# Altium schematic symbol library Schlib1.SchLib: 23 symbols
Pins are listed as number, name and electrical type; pins without a type are passive.

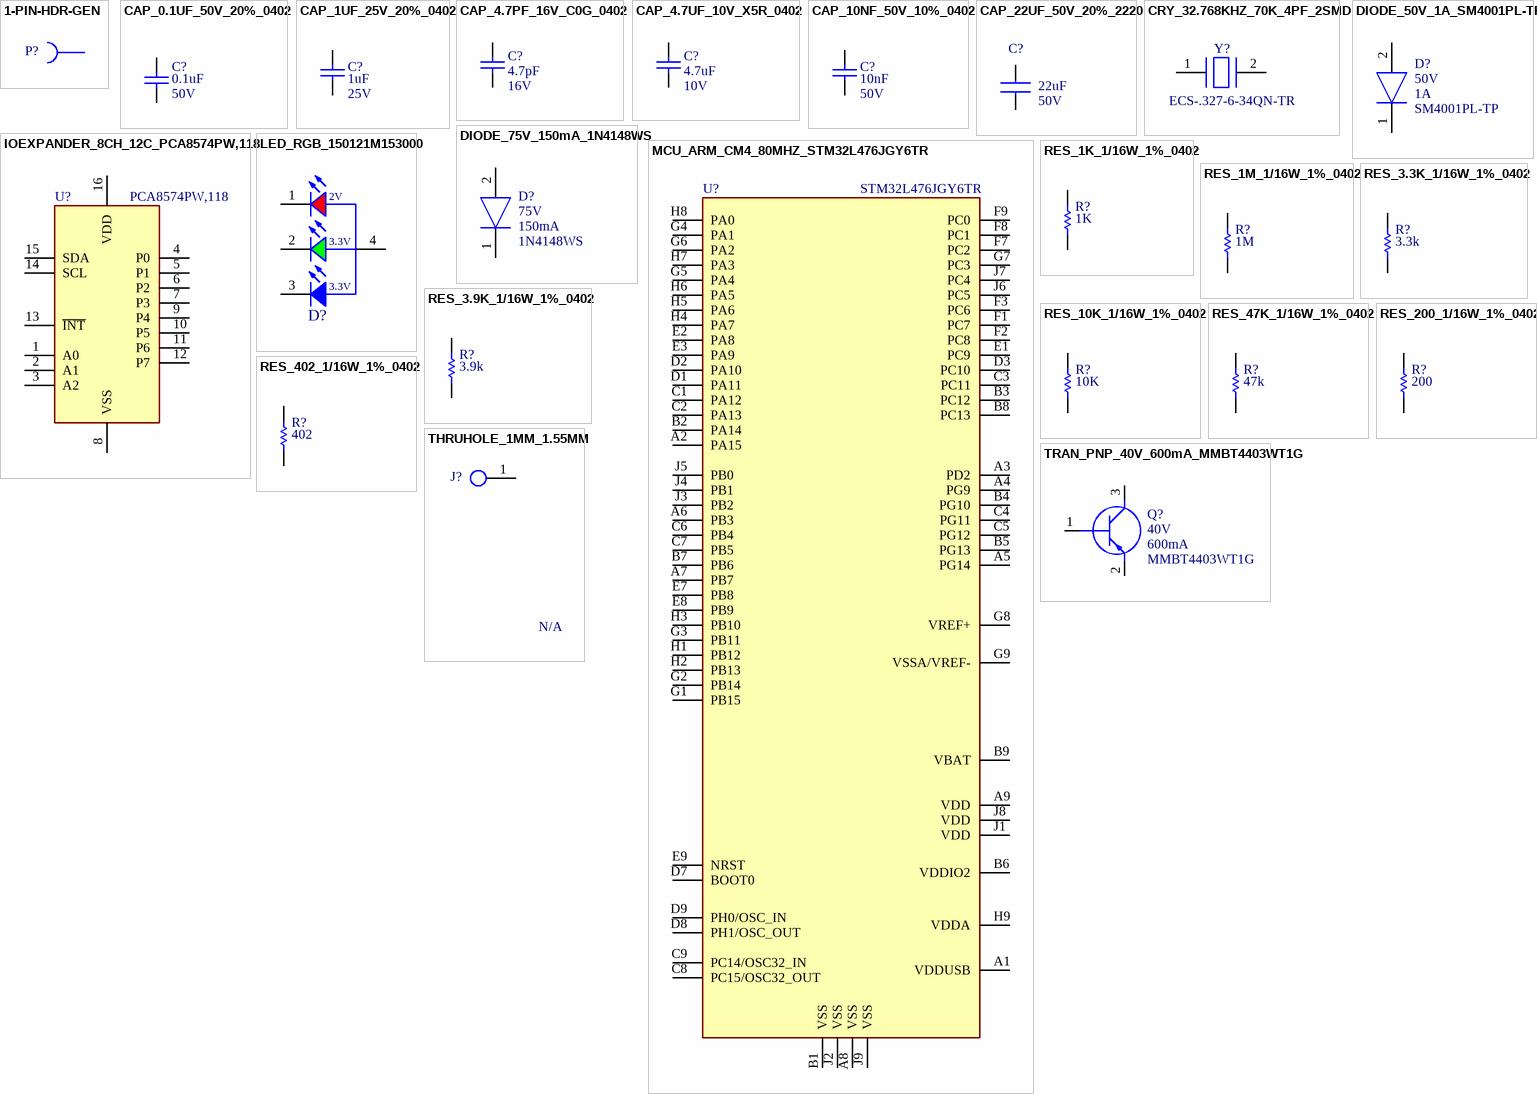
[diagram p0: symbols 1-PIN-HDR-GEN to TRAN_PNP_40V_600mA_MMBT4403WT1G]

## 1-PIN-HDR-GEN
designator P?  (value not drawn)
Generic through hole; Manufacturer Part Number: DNP; Manufacturer: N/A
footprint 1X01-PIN
pins: 1 P$1

## CAP_0.1UF_50V_20%_0402
designator C?, comment value 0.1uF  Voltage Rating: 50V  (hidden comment: GRM155R71H104KE14J)
CAP_0.1UF_50V_20%_0402; Manufacturer: Murata; Height: 0.55MM; Manufacturer Part Number: GRM155R71H104KE14J; ComponentLink1Description: Datasheet; ComponentLink1URL: https://search.murata.co.jp/Ceramy/image/img/A01X/G101/ENG/GRM155R71E104ME14-01.pdf
footprint CAP_0402_0.55MM (Footprint not found)
pins: 1, 2

## CAP_1UF_25V_20%_0402
designator C?, comment value 1uF  Voltage Rating: 25V  (hidden comment: GRM155R61E105MA12D)
CAP_1UF_25V_20%_0402; Manufacturer: Murata; Height: 0.55MM; Manufacturer Part Number: GRM155R61E105MA12D; Package: 0402
footprint CAP_0402_0.55MM
pins: 1, 2

## CAP_4.7PF_16V_C0G_0402
designator C?, comment value 4.7pF  Voltage Rating: 16V  (hidden comment: 885012005023)
CAP_4.7PF_16V_C0G_0402; Manufacturer: Würth Elektronik; Manufacturer Part Number: 885012005023; ComponentLink1Description: Datasheet; ComponentLink1URL: https://www.we-online.com/katalog/datasheet/885012005023.pdf
footprint CAP_0402_0.55MM
pins: 1, 2

## CAP_4.7UF_10V_X5R_0402
designator C?, comment value 4.7uF  Voltage Rating: 10V  (hidden comment: CL05A475KP5NRNC)
CAP CER 4.7UF 10V X5R 0402; Manufacturer: Samsung Electro-Mechanics; Manufacturer Part Number: CL05A475KP5NRNC; ComponentLink1Description: Datasheet; ComponentLink1URL: https://media.digikey.com/pdf/Data%20Sheets/Samsung%20PDFs/CL05A475KP5NRNC_Spec.pdf
footprint CAP_0402_0.55MM
pins: 1, 2

## CAP_10NF_50V_10%_0402
designator C?, comment value 10nF  Voltage Rating: 50V  (hidden comment: GCM155R71H103KA55J)
CAP_10NF_50V_10%_0402; Manufacturer: Murata; Height: 0.55MM; Manufacturer Part Number: GCM155R71H103KA55J; Package: 0402; ComponentLink1Description: Datasheet; ComponentLink1URL: https://search.murata.co.jp/Ceramy/image/img/A01X/G101/ENG/GCM155R71H103KA55-01.pdf
footprint CAP_0402_0.55MM (Footprint not found)
pins: 1, 2

## CAP_22UF_50V_20%_2220
designator C?, comment value 22uF  Voltage Rating: 50V  (hidden comment: CGA9P3X7R1H226M250KB)
CAP_22UF_50V_20%_2220; Manufacturer: TDK; Height: 2.8mm; Manufacturer Part Number: CGA9P3X7R1H226M250KB; ComponentLink1Description: Datasheet; ComponentLink1URL: https://product.tdk.com/system/files/dam/doc/product/capacitor/ceramic/mlcc/catalog/mlcc_automotive_general_en.pdf
footprint CAP_2220_2.8MM
pins: 1, 2

## CRY_32.768KHZ_70K_4PF_2SMD
designator Y?, comment ECS-.327-6-34QN-TR
32.768 kHz ±20ppm Crystal 6pF 70 kOhms 2-SMD, No Lead; Manufacturer: ECS; Height: 0.9mm; Manufacturer Part Number: ECS-.327-6-34QN-TR; ComponentLink1Description: Datasheet; ComponentLink1URL: https://www.mouser.de/ProductDetail/ECS/ECS-327-6-34QN-TR/?qs=%2FnKYMpMO73Pux8utSILL9w%3D%3D
footprint CRY_3.2X1.5_2SMD
pins: 1 X1, 2 X2

## DIODE_50V_1A_SM4001PL-TP
designator D?, comment SM4001PL-TP  Current: 1A  Voltage: 50V
DIODE_50V_1A_SM4001PL-TP; Manufacturer: Micro Commercial Components (MCC); Height: 1.2mm; Manufacturer Part Number: SM4001PL-TP; ComponentLink1Description: Datasheet; ComponentLink1URL: https://www.mccsemi.com/pdf/Products/SM4001PL-SM4007PL(SOD-123FL).PDF
footprint DIODE_SOD123FL_1.35MM
pins: 1 K, 2 A

## DIODE_75V_150mA_1N4148WS
designator D?, comment 1N4148WS  Current: 150mA  Voltage: 75V
DIODE_75V_150mA_1N4148WS; Manufacturer: ON Semiconductor; Height: 0.9mm; Manufacturer Part Number: 1N4148WS; ComponentLink1Description: Datasheet; ComponentLink1URL: https://rocelec.widen.net/view/pdf/tf3dlteblx/FAIR-S-A0000573112-1.pdf?t.download=true&u=5oefqw
footprint DIODE_SOD323F_1MM
pins: 1 K, 2 A

## IOEXPANDER_8CH_12C_PCA8574PW,118
designator U?, comment PCA8574PW,118
IOExpander_8CH_12C_PCA8574PW,118; Manufacturer: NXP; Height: 1.1mm; Manufacturer Part Number: PCA8574PW,118; ComponentLink1Description: Datasheet; ComponentLink1URL: http://www.nxp.com/docs/en/data-sheet/PCA8574_PCA8574A.pdf
footprint TSSOP16_4.4MM_W
pins: 1 A0, 2 A1, 3 A2, 4 P0, 5 P1, 6 P2, 7 P3, 8 VSS, 9 P4, 10 P5, 11 P6, 12 P7, 13 ~{INT}, 14 SCL, 15 SDA, 16 VDD

## LED_RGB_150121M153000
designator D?, comment 150121M153000  (value not drawn)
WL-SFCD SMT Full-color Chip LED Diffused, size 1210, Red & Green & Blue, 120deg; Manufacturer: Wurth Elektronik; Luminous Intensity: 80mcd@Blue, 180mcd@Green, 70mcd@Red; Dominant Wavelength: 470nm@Blue, 525nm@Green, 624nm@Red; Forward Voltage: 3.3V@Blue, 3.3V@Green, 2V@Red; Peak Wavelength: 468nm@Blue, 520nm@Green, 632nm@Red; ComponentLink1Description: Manufacturer; ComponentLink1URL: http://www.we-online.de; ComponentLink2Description: Datasheet; ComponentLink2URL: https://katalog.we-online.de/led/datasheet/150121M153000.pdf; Emitting Color: Red & Green & Blue; Operating Temperature: -40 to +85degC; Manufacturer Part Number: 150121M153000; Size: 1210; Viewing Angle: 120deg
footprint WL-SFCD_1210
pins: 1 K, 2 K, 3 K, 4 A
text: 2V; 3.3V

## MCU_ARM_CM4_80MHZ_STM32L476JGY6TR
designator U?, comment STM32L476JGY6TR
ARM Microcontrollers - MCU Ultra-low-power FPU Arm Cortex-M4 MCU 80 MHz 1 Mbyte of Flash LCD, USB OTG, DFSD; Manufacturer: STMicroelectronics; Manufacturer Part Number: STM32L476JGY6TR; ComponentLink1Description: Datasheet; ComponentLink1URL: https://www.st.com/content/ccc/resource/technical/document/datasheet/c5/ed/2f/60/aa/79/42/0b/DM00108832.pdf/files/DM00108832.pdf/jcr:content/translations/en.DM00108832.pdf
footprint BGA72C40P9X9_441X374X56
pins: A1 VDDUSB (power), A2 PA15, A3 PD2, A4 PG9, A5 PG14, A6 PB3, A7 PB7, A8 VSS (power), A9 VDD (power), B1 VSS (power), B2 PA14, B3 PC12, B4 PG10, B5 PG13, B6 VDDIO2 (power), B7 PB6, B8 PC13, B9 VBAT (power), C1 PA12, C2 PA13, C3 PC11, C4 PG11, C5 PG12, C6 PB4, C7 PB5, C8 PC15/OSC32_OUT, C9 PC14/OSC32_IN, D1 PA11, D2 PA10, D3 PC10, D7 BOOT0, D8 PH1/OSC_OUT, D9 PH0/OSC_IN, E1 PC9, E2 PA8, E3 PA9, E7 PB8, E8 PB9, E9 NRST, F1 PC7, F2 PC8, F3 PC6, F7 PC2, F8 PC1, F9 PC0, G1 PB15, G2 PB14, G3 PB11, G4 PA1, G5 PA4, G6 PA2, G7 PC3, G8 VREF+ (power), G9 VSSA/VREF- (power), H1 PB12, H2 PB13, H3 PB10, H4 PA7, H5 PA6, H6 PA5, H7 PA3, H8 PA0, H9 VDDA (power), J1 VDD (power), J2 VSS (power), J3 PB2, J4 PB1, J5 PB0, J6 PC5, J7 PC4, J8 VDD (power), J9 VSS (power)

## RES_1K_1/16W_1%_0402
designator R?, comment value 1K  (hidden comment: RC0402FR-071KP)
RES_1K_1/16W_1%_0402; Manufacturer: Yageo; Tolerance: 1%; Height: 0.4MM; Manufacturer Part Number: RC0402FR-071KP; Package: 0402
footprint RES_0402_0.4MM
pins: 1 N1, 2 N2

## RES_1M_1/16W_1%_0402
designator R?, comment value 1M  (hidden comment: RC0402FR-131ML)
RES_1M_1/16W_1%_0402; Manufacturer: Yageo; Tolerance: 1%; Max Operating Temperature: 155°C; Min Operating Temperature: -55°C; Height: 0.4MM; ComponentLink1Description: Datasheet Link; ComponentLink1URL: https://www.yageo.com/upload/media/product/productsearch/datasheet/rchip/PYu-RC_Group_51_RoHS_L_11.pdf; Manufacturer Part Number: RC0402FR-131ML; Package: 0402
footprint RES_0402_0.4MM
pins: 1 N1, 2 N2

## RES_3.3K_1/16W_1%_0402
designator R?, comment value 3.3k  (hidden comment: RC0402FR-133K3L)
RES_3.3K_1/16W_1%_0402; Manufacturer: Yageo; Tolerance: 1%; Max Operating Temperature: 155°C; Min Operating Temperature: -55°C; Height: 0.4MM; ComponentLink1Description: Datasheet Link; ComponentLink1URL: https://www.yageo.com/upload/media/product/productsearch/datasheet/rchip/PYu-RC_Group_51_RoHS_L_11.pdf; Manufacturer Part Number: RC0402FR-133K3L; Package: 0402
footprint RES_0402_0.4MM
pins: 1 N1, 2 N2

## RES_3.9K_1/16W_1%_0402
designator R?, comment value 3.9k  (hidden comment: RC0402FR-073K9L)
RES_3.9K_1/16W_1%_0402; Manufacturer: Yageo; Tolerance: 1%; Max Operating Temperature: 155°C; Min Operating Temperature: -55°C; Height: 0.4MM; ComponentLink1Description: Datasheet Link; ComponentLink1URL: https://www.yageo.com/upload/media/product/productsearch/datasheet/rchip/PYu-RC_Group_51_RoHS_L_11.pdf; Manufacturer Part Number: RC0402FR-073K9L; Package: 0402
footprint RES_0402_0.4MM
pins: 1 N1, 2 N2

## RES_10K_1/16W_1%_0402
designator R?, comment value 10K  (hidden comment: RC0402FR-0710KP)
RES_10K_1/16W_1%_0402; Manufacturer: Yageo; Tolerance: 1%; Height: 0.4MM; Manufacturer Part Number: RC0402FR-0710KP
footprint RES_0402_0.4MM
pins: 1 N1, 2 N2

## RES_47K_1/16W_1%_0402
designator R?, comment value 47k  (hidden comment: RC0402FR-0747KL)
RES_47K_1/16W_1%_0402; Manufacturer: Yageo; Tolerance: 1%; Max Operating Temperature: 155°C; Min Operating Temperature: -55°C; Height: 0.4MM; ComponentLink1Description: Datasheet Link; ComponentLink1URL: https://www.yageo.com/upload/media/product/productsearch/datasheet/rchip/PYu-RC_Group_51_RoHS_L_11.pdf; Manufacturer Part Number: RC0402FR-0747KL; Package: 0402
footprint RES_0402_0.4MM
pins: 1 N1, 2 N2

## RES_200_1/16W_1%_0402
designator R?, comment value 200  (hidden comment: RC0402FR-13200RL)
RES_200_1/16W_1%_0402; Manufacturer: Yageo; Tolerance: 1%; Max Operating Temperature: 155°C; Min Operating Temperature: -55°C; Height: 0.4MM; ComponentLink1Description: Datasheet Link; ComponentLink1URL: https://www.yageo.com/upload/media/product/productsearch/datasheet/rchip/PYu-RC_Group_51_RoHS_L_11.pdf; Manufacturer Part Number: RC0402FR-13200RL; Package: 0402
footprint RES_0402_0.4MM
pins: 1 N1, 2 N2

## RES_402_1/16W_1%_0402
designator R?, comment value 402  (hidden comment: RC0402FR-07402RL)
RES_402_1/16W_1%_0402; Manufacturer: Yageo; Tolerance: 1%; Max Operating Temperature: 155°C; Min Operating Temperature: -55°C; Height: 0.4MM; ComponentLink1Description: Datasheet Link; ComponentLink1URL: https://www.yageo.com/upload/media/product/productsearch/datasheet/rchip/PYu-RC_Group_51_RoHS_L_11.pdf; Manufacturer Part Number: RC0402FR-07402RL; Package: 0402
footprint RES_0402_0.4MM
pins: 1 N1, 2 N2

## THRUHOLE_1MM_1.55MM
designator J?, comment N/A
Through Hole
footprint TH_1MM_1.55MM
pins: 1

## TRAN_PNP_40V_600mA_MMBT4403WT1G
designator Q?, comment MMBT4403WT1G  Current: 600mA  Voltage: 40V
Transistor BJT PNP; Manufacturer: ON Semiconductor; Height: 1mm; Manufacturer Part Number: MMBT4403WT1G; ComponentLink1Description: Datasheet; ComponentLink1URL: https://www.onsemi.com/pdf/datasheet/mmbt4403wt1-d.pdf
footprint SOT323_0.7MM
pins: 1 B, 2 E, 3 C